# Altium footprint library HDSP-52.PcbLib: 1 footprints
Each footprint in its own frame and in the unit in brackets; x right, y up, seen from the top. Pads: shape width x height; smd on the part's side, far side on the other; paste and mask are expansions set on the pad; w line width, h text height; cw(c..) or ccw(c..) is an arc to the next point about the centre after c.
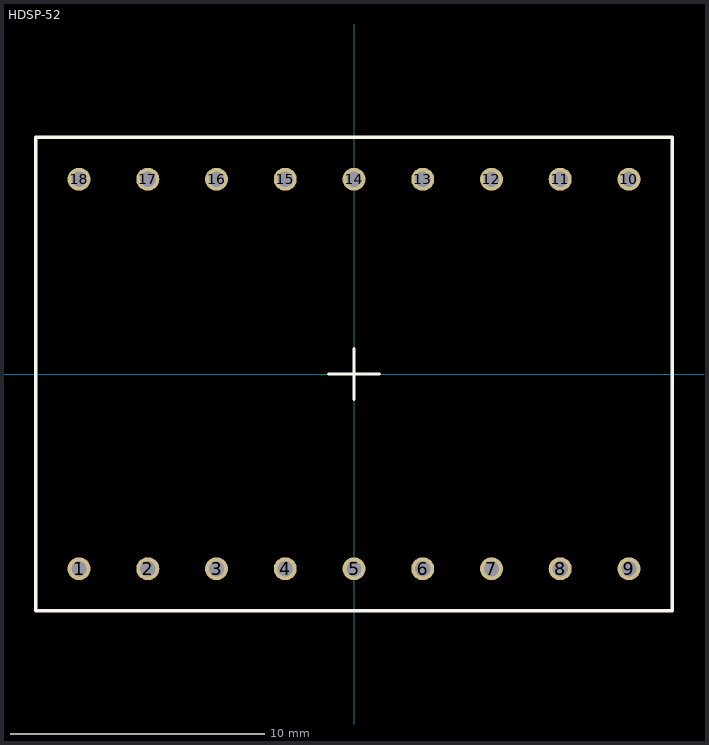
[diagram p0: the footprint, top view; thin cyan lines are the x and y axes]

## HDSP-52 [mm]
pads (18):
  round 0.9 hole 0.6: 1(-10.8,-7.65) 2(-8.1,-7.65) 3(-5.4,-7.65) 4(-2.7,-7.65) 5(0,-7.65) 6(2.7,-7.65) 7(5.4,-7.65) 8(8.1,-7.65) 9(10.8,-7.65) 10(10.8,7.65) 11(8.1,7.65) 12(5.4,7.65) 13(2.7,7.65) 14(0,7.65) 15(-2.7,7.65) 16(-5.4,7.65) 17(-8.1,7.65) 18(-10.8,7.65)
Top Overlay:
  lines w0.125: -1,0 1,0 ; 0,-1 0,1 ; -12.5,-9.3 12.5,-9.3 12.5,9.3 -12.5,9.3 -12.5,-9.3
3D body: height 6.8, standoff 0.5, extent -12.5,-9.3 12.5,9.3